# EAGLE library part NEO-M8N-0 (library microfloat)
Ic Receiver Gps/Gnss 24lcc
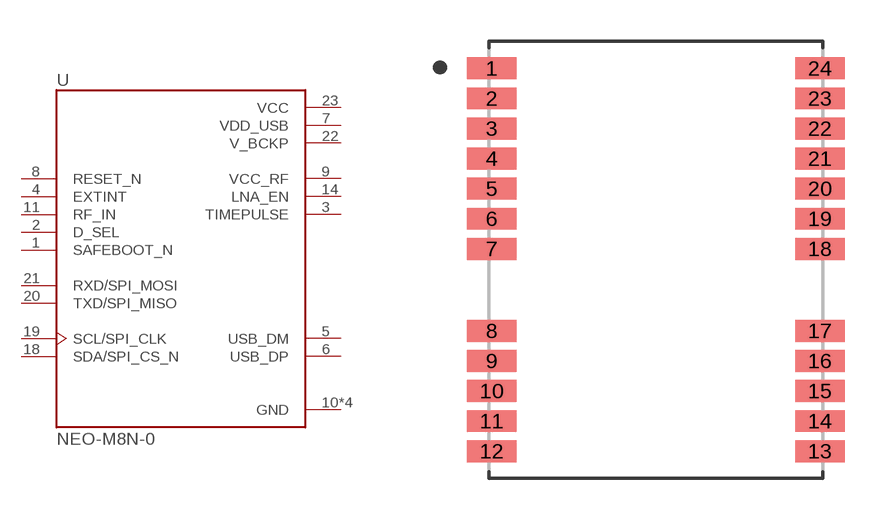
[diagram p7: symbol with the pads of XCVR_NEO-M8N-0; footprint XCVR_NEO-M8N-0]

Designator prefix U

## NEO-M8N-0 (DESCRIPTION: NEO-M8 RF Receiver BeiDou, Galileo, GLONASS, GNSS, GPS 1.575GHz -167dBm; DKPN: 672-NEO-M8N-0CT-ND)  [XCVR_NEO-M8N-0]
1  SAFEBOOT_N  pas
2  D_SEL  pas
3  TIMEPULSE  pas
4  EXTINT  pas
5  USB_DM  pas
6  USB_DP  pas
7  VDD_USB  pas
8  RESET_N  pas
9  VCC_RF  pas
10  GND  pas
11  RF_IN  pas
12  GND  pas
13  GND  pas
14  LNA_EN  pas
18  SDA/SPI_CS_N  pas
19  SCL/SPI_CLK  pas
20  TXD/SPI_MISO  pas
21  RXD/SPI_MOSI  pas
22  V_BCKP  pas
23  VCC  pas
24  GND  pas

## Footprint XCVR_NEO-M8N-0 (pad centres in mm)
smd 1.8 x 0.8: 1 -6,7; 2 -6,5.9; 3 -6,4.8; 4 -6,3.7; 5 -6,2.6; 6 -6,1.5; 7 -6,0.4; 8 -6,-2.6; 9 -6,-3.7; 10 -6,-4.8; 11 -6,-5.9; 12 -6,-7; 13 6,-7; 14 6,-5.9; 15 6,-4.8; 16 6,-3.7; 17 6,-2.6; 18 6,0.4; 19 6,1.5; 20 6,2.6; 21 6,3.7; 22 6,4.8; 23 6,5.9; 24 6,7